# Altium footprint library KN2CLib.PcbLib: 180 footprints (part 2 of 12)
Each footprint in its own frame and in the unit in brackets; x right, y up, seen from the top. Pads: shape width x height; smd on the part's side, far side on the other; paste and mask are expansions set on the pad; w line width, h text height; cw(c..) or ccw(c..) is an arc to the next point about the centre after c.
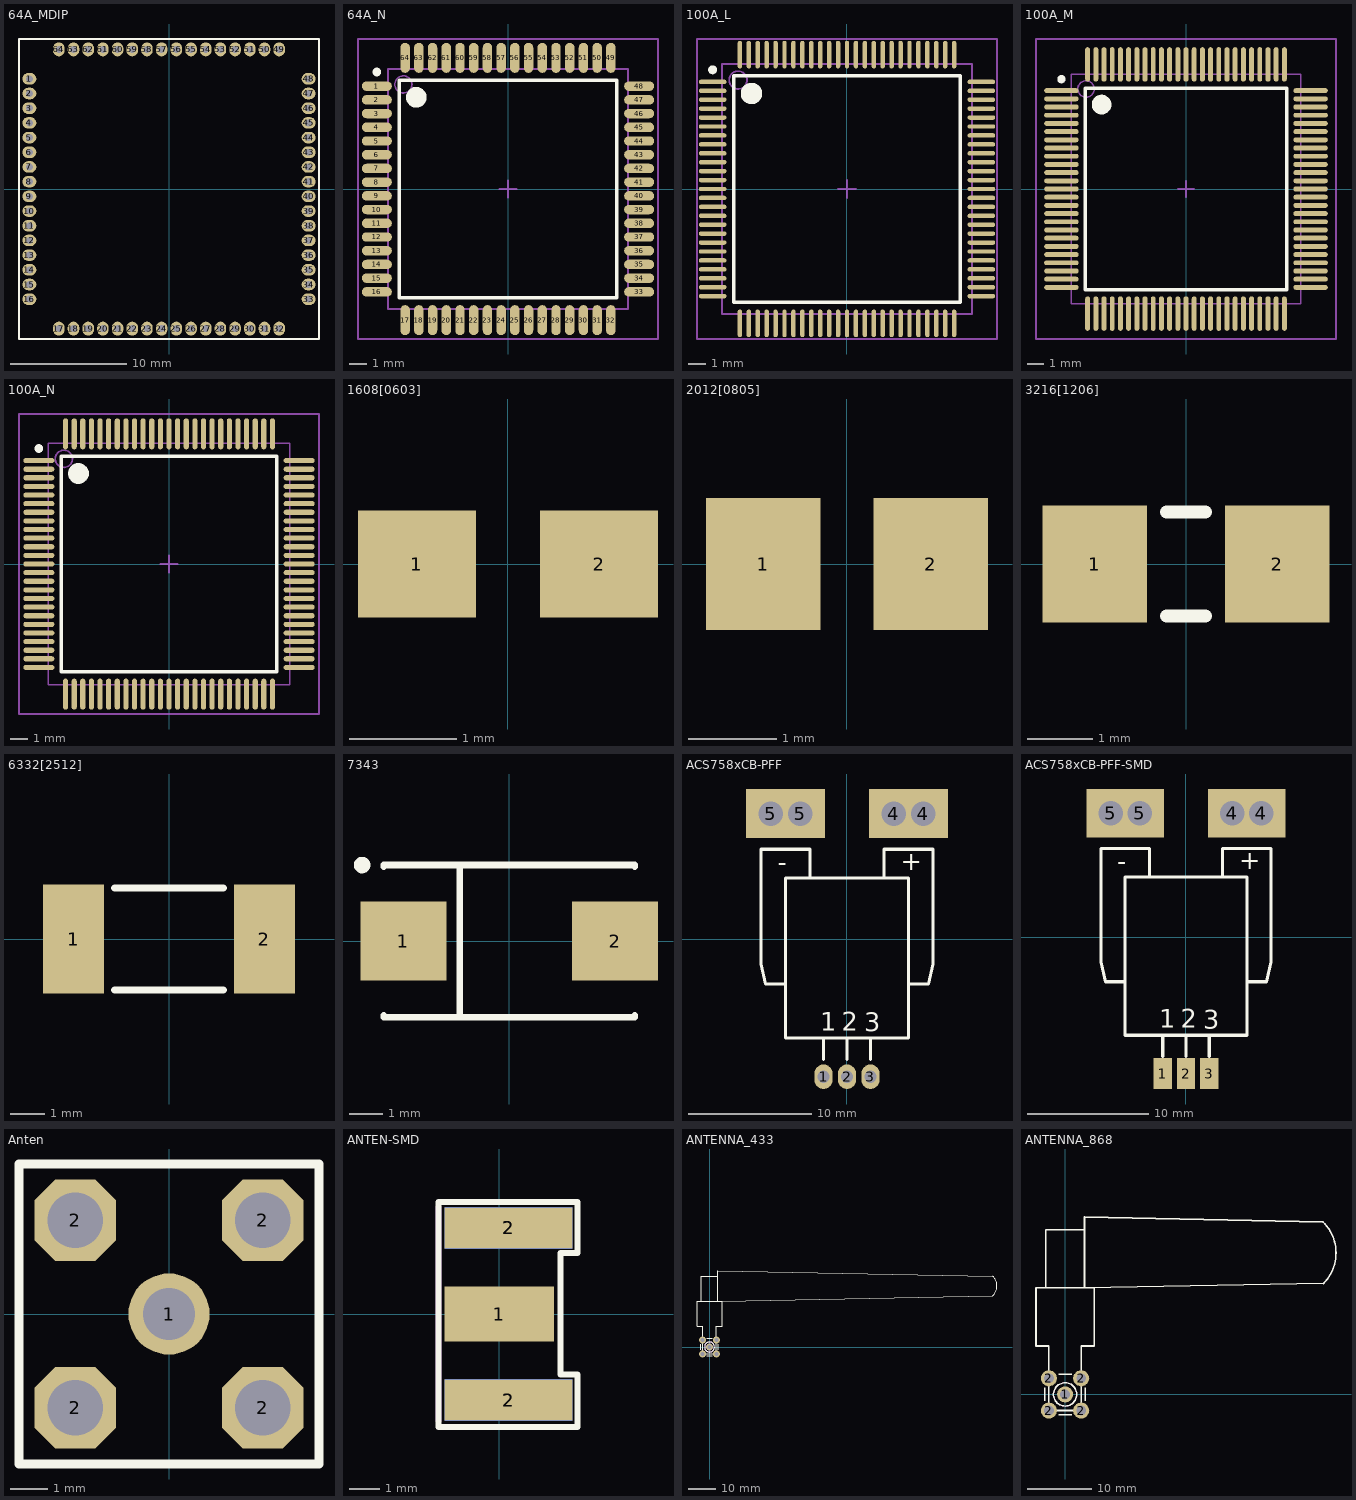
[diagram p1: the footprints below, top view; thin cyan lines are the x and y axes]

## 64A_MDIP [mm]
pads (64):
  oval 1.2x1 hole 0.6: 1(-12.065,9.525) 2(-12.065,8.255) 3(-12.065,6.985) 4(-12.065,5.715) 5(-12.065,4.445) 6(-12.065,3.175) 7(-12.065,1.905) 8(-12.065,0.635) 9(-12.065,-0.635) 10(-12.065,-1.905) 11(-12.065,-3.175) 12(-12.065,-4.445) 13(-12.065,-5.715) 14(-12.065,-6.985) 15(-12.065,-8.255) 16(-12.065,-9.525) 33(12.065,-9.525) 34(12.065,-8.255) 35(12.065,-6.985) 36(12.065,-5.715) 37(12.065,-4.445) 38(12.065,-3.175) 39(12.065,-1.905) 40(12.065,-0.635) 41(12.065,0.635) 42(12.065,1.905) 43(12.065,3.175) 44(12.065,4.445) 45(12.065,5.715) 46(12.065,6.985) 47(12.065,8.255) 48(12.065,9.525)
  oval 1x1.2 hole 0.6: 17(-9.525,-12.065) 18(-8.255,-12.065) 19(-6.985,-12.065) 20(-5.715,-12.065) 21(-4.445,-12.065) 22(-3.175,-12.065) 23(-1.905,-12.065) 24(-0.635,-12.065) 25(0.635,-12.065) 26(1.905,-12.065) 27(3.175,-12.065) 28(4.445,-12.065) 29(5.715,-12.065) 30(6.985,-12.065) 31(8.255,-12.065) 32(9.525,-12.065) 49(9.525,12.065) 50(8.255,12.065) 51(6.985,12.065) 52(5.715,12.065) 53(4.445,12.065) 54(3.175,12.065) 55(1.905,12.065) 56(0.635,12.065) 57(-0.635,12.065) 58(-1.905,12.065) 59(-3.175,12.065) 60(-4.445,12.065) 61(-5.715,12.065) 62(-6.985,12.065) 63(-8.255,12.065) 64(-9.525,12.065)
Top Overlay:
  lines w0.2: -12.965,-12.965 12.965,-12.965 12.965,12.965 -12.965,12.965 -12.965,-12.965

## 64A_N [mm] "Thin QFP, 64-Leads, Body 14x14mm, Pitch 0.8mm, IPC Medium Density"
height 1.2
pads (64):
  oval 1.75x0.55 smd: 1(-7.65,6) 2(-7.65,5.2) 3(-7.65,4.4) 4(-7.65,3.6) 5(-7.65,2.8) 6(-7.65,2) 7(-7.65,1.2) 8(-7.65,0.4) 9(-7.65,-0.4) 10(-7.65,-1.2) 11(-7.65,-2) 12(-7.65,-2.8) 13(-7.65,-3.6) 14(-7.65,-4.4) 15(-7.65,-5.2) 16(-7.65,-6) 33(7.65,-6) 34(7.65,-5.2) 35(7.65,-4.4) 36(7.65,-3.6) 37(7.65,-2.8) 38(7.65,-2) 39(7.65,-1.2) 40(7.65,-0.4) 41(7.65,0.4) 42(7.65,1.2) 43(7.65,2) 44(7.65,2.8) 45(7.65,3.6) 46(7.65,4.4) 47(7.65,5.2) 48(7.65,6)
  oval 0.55x1.75 smd: 17(-6,-7.65) 18(-5.2,-7.65) 19(-4.4,-7.65) 20(-3.6,-7.65) 21(-2.8,-7.65) 22(-2,-7.65) 23(-1.2,-7.65) 24(-0.4,-7.65) 25(0.4,-7.65) 26(1.2,-7.65) 27(2,-7.65) 28(2.8,-7.65) 29(3.6,-7.65) 30(4.4,-7.65) 31(5.2,-7.65) 32(6,-7.65) 49(6,7.65) 50(5.2,7.65) 51(4.4,7.65) 52(3.6,7.65) 53(2.8,7.65) 54(2,7.65) 55(1.2,7.65) 56(0.4,7.65) 57(-0.4,7.65) 58(-1.2,7.65) 59(-2,7.65) 60(-2.8,7.65) 61(-3.6,7.65) 62(-4.4,7.65) 63(-5.2,7.65) 64(-6,7.65)
Top Overlay:
  circle w0.6: c-5.35,5.35 r0.3
  circle w0.25: c-7.65,6.825 r0.125
  lines w0.2: -6.35,-6.35 6.35,-6.35 6.35,6.35 -6.35,6.35 -6.35,-6.35
Mechanical 13:
  circle w0.1: c-6.1,6.1 r0.5
  lines w0.1: -7,-7 7,-7 7,7 -7,7 -7,-7
Mechanical 15:
  lines w0.1: -0.5,0 0.5,0 ; 0,-0.5 0,0.5 ; -8.75,-8.75 8.75,-8.75 8.75,8.75 -8.75,8.75 -8.75,-8.75
3D body: height 1.2, standoff 0, extent -7,-7 7,7

## 100A_L [mm] "Thin QFP, 100-Leads, Body 14x14mm, Pitch 0.5mm, IPC High Density"
height 1.2
pads (100):
  oval 1.55x0.25 smd: 1(-7.525,6) 2(-7.525,5.5) 3(-7.525,5) 4(-7.525,4.5) 5(-7.525,4) 6(-7.525,3.5) 7(-7.525,3) 8(-7.525,2.5) 9(-7.525,2) 10(-7.525,1.5) 11(-7.525,1) 12(-7.525,0.5) 13(-7.525,0) 14(-7.525,-0.5) 15(-7.525,-1) 16(-7.525,-1.5) 17(-7.525,-2) 18(-7.525,-2.5) 19(-7.525,-3) 20(-7.525,-3.5) 21(-7.525,-4) 22(-7.525,-4.5) 23(-7.525,-5) 24(-7.525,-5.5) 25(-7.525,-6) 51(7.525,-6) 52(7.525,-5.5) 53(7.525,-5) 54(7.525,-4.5) 55(7.525,-4) 56(7.525,-3.5) 57(7.525,-3) 58(7.525,-2.5) 59(7.525,-2) 60(7.525,-1.5) 61(7.525,-1) 62(7.525,-0.5) 63(7.525,0) 64(7.525,0.5) 65(7.525,1) 66(7.525,1.5) 67(7.525,2) 68(7.525,2.5) 69(7.525,3) 70(7.525,3.5) 71(7.525,4) 72(7.525,4.5) 73(7.525,5) 74(7.525,5.5) 75(7.525,6)
  oval 0.25x1.55 smd: 26(-6,-7.525) 27(-5.5,-7.525) 28(-5,-7.525) 29(-4.5,-7.525) 30(-4,-7.525) 31(-3.5,-7.525) 32(-3,-7.525) 33(-2.5,-7.525) 34(-2,-7.525) 35(-1.5,-7.525) 36(-1,-7.525) 37(-0.5,-7.525) 38(0,-7.525) 39(0.5,-7.525) 40(1,-7.525) 41(1.5,-7.525) 42(2,-7.525) 43(2.5,-7.525) 44(3,-7.525) 45(3.5,-7.525) 46(4,-7.525) 47(4.5,-7.525) 48(5,-7.525) 49(5.5,-7.525) 50(6,-7.525) 76(6,7.525) 77(5.5,7.525) 78(5,7.525) 79(4.5,7.525) 80(4,7.525) 81(3.5,7.525) 82(3,7.525) 83(2.5,7.525) 84(2,7.525) 85(1.5,7.525) 86(1,7.525) 87(0.5,7.525) 88(0,7.525) 89(-0.5,7.525) 90(-1,7.525) 91(-1.5,7.525) 92(-2,7.525) 93(-2.5,7.525) 94(-3,7.525) 95(-3.5,7.525) 96(-4,7.525) 97(-4.5,7.525) 98(-5,7.525) 99(-5.5,7.525) 100(-6,7.525)
Top Overlay:
  circle w0.25: c-7.525,6.675 r0.125
  circle w0.6: c-5.35,5.35 r0.3
  lines w0.2: -6.35,-6.35 -6.35,6.35 6.35,6.35 6.35,-6.35 -6.35,-6.35
Mechanical 13:
  circle w0.1: c-6.1,6.1 r0.5
  lines w0.1: -7,-7 -7,7 7,7 7,-7 -7,-7
Mechanical 15:
  lines w0.1: -0.5,0 0.5,0 ; 0,-0.5 0,0.5 ; -8.4,-8.4 -8.4,8.4 8.4,8.4 8.4,-8.4 -8.4,-8.4
3D body: height 1.2, standoff 0, extent -7,-7 7,7

## 100A_M [mm] "Thin QFP, 100-Leads, Body 14x14mm, Pitch 0.5mm, IPC Low Density"
height 1.2
pads (100):
  oval 2.1x0.3 smd: 1(-7.6,6) 2(-7.6,5.5) 3(-7.6,5) 4(-7.6,4.5) 5(-7.6,4) 6(-7.6,3.5) 7(-7.6,3) 8(-7.6,2.5) 9(-7.6,2) 10(-7.6,1.5) 11(-7.6,1) 12(-7.6,0.5) 13(-7.6,0) 14(-7.6,-0.5) 15(-7.6,-1) 16(-7.6,-1.5) 17(-7.6,-2) 18(-7.6,-2.5) 19(-7.6,-3) 20(-7.6,-3.5) 21(-7.6,-4) 22(-7.6,-4.5) 23(-7.6,-5) 24(-7.6,-5.5) 25(-7.6,-6) 51(7.6,-6) 52(7.6,-5.5) 53(7.6,-5) 54(7.6,-4.5) 55(7.6,-4) 56(7.6,-3.5) 57(7.6,-3) 58(7.6,-2.5) 59(7.6,-2) 60(7.6,-1.5) 61(7.6,-1) 62(7.6,-0.5) 63(7.6,0) 64(7.6,0.5) 65(7.6,1) 66(7.6,1.5) 67(7.6,2) 68(7.6,2.5) 69(7.6,3) 70(7.6,3.5) 71(7.6,4) 72(7.6,4.5) 73(7.6,5) 74(7.6,5.5) 75(7.6,6)
  oval 0.3x2.1 smd: 26(-6,-7.6) 27(-5.5,-7.6) 28(-5,-7.6) 29(-4.5,-7.6) 30(-4,-7.6) 31(-3.5,-7.6) 32(-3,-7.6) 33(-2.5,-7.6) 34(-2,-7.6) 35(-1.5,-7.6) 36(-1,-7.6) 37(-0.5,-7.6) 38(0,-7.6) 39(0.5,-7.6) 40(1,-7.6) 41(1.5,-7.6) 42(2,-7.6) 43(2.5,-7.6) 44(3,-7.6) 45(3.5,-7.6) 46(4,-7.6) 47(4.5,-7.6) 48(5,-7.6) 49(5.5,-7.6) 50(6,-7.6) 76(6,7.6) 77(5.5,7.6) 78(5,7.6) 79(4.5,7.6) 80(4,7.6) 81(3.5,7.6) 82(3,7.6) 83(2.5,7.6) 84(2,7.6) 85(1.5,7.6) 86(1,7.6) 87(0.5,7.6) 88(0,7.6) 89(-0.5,7.6) 90(-1,7.6) 91(-1.5,7.6) 92(-2,7.6) 93(-2.5,7.6) 94(-3,7.6) 95(-3.5,7.6) 96(-4,7.6) 97(-4.5,7.6) 98(-5,7.6) 99(-5.5,7.6) 100(-6,7.6)
Top Overlay:
  circle w0.25: c-7.6,6.7 r0.125
  circle w0.6: c-5.15,5.15 r0.3
  lines w0.2: -6.15,-6.15 -6.15,6.15 6.15,6.15 6.15,-6.15 -6.15,-6.15
Mechanical 13:
  circle w0.1: c-6.1,6.1 r0.5
  lines w0.1: -7,-7 -7,7 7,7 7,-7 -7,-7
Mechanical 15:
  lines w0.1: -0.5,0 0.5,0 ; 0,-0.5 0,0.5 ; -9.15,-9.15 -9.15,9.15 9.15,9.15 9.15,-9.15 -9.15,-9.15
3D body: height 1.2, standoff 0, extent -7,-7 7,7

## 100A_N [mm] "Thin QFP, 100-Leads, Body 14x14mm, Pitch 0.5mm, IPC Medium Density"
height 1.2
pads (100):
  oval 1.8x0.3 smd: 1(-7.55,6) 2(-7.55,5.5) 3(-7.55,5) 4(-7.55,4.5) 5(-7.55,4) 6(-7.55,3.5) 7(-7.55,3) 8(-7.55,2.5) 9(-7.55,2) 10(-7.55,1.5) 11(-7.55,1) 12(-7.55,0.5) 13(-7.55,0) 14(-7.55,-0.5) 15(-7.55,-1) 16(-7.55,-1.5) 17(-7.55,-2) 18(-7.55,-2.5) 19(-7.55,-3) 20(-7.55,-3.5) 21(-7.55,-4) 22(-7.55,-4.5) 23(-7.55,-5) 24(-7.55,-5.5) 25(-7.55,-6) 51(7.55,-6) 52(7.55,-5.5) 53(7.55,-5) 54(7.55,-4.5) 55(7.55,-4) 56(7.55,-3.5) 57(7.55,-3) 58(7.55,-2.5) 59(7.55,-2) 60(7.55,-1.5) 61(7.55,-1) 62(7.55,-0.5) 63(7.55,0) 64(7.55,0.5) 65(7.55,1) 66(7.55,1.5) 67(7.55,2) 68(7.55,2.5) 69(7.55,3) 70(7.55,3.5) 71(7.55,4) 72(7.55,4.5) 73(7.55,5) 74(7.55,5.5) 75(7.55,6)
  oval 0.3x1.8 smd: 26(-6,-7.55) 27(-5.5,-7.55) 28(-5,-7.55) 29(-4.5,-7.55) 30(-4,-7.55) 31(-3.5,-7.55) 32(-3,-7.55) 33(-2.5,-7.55) 34(-2,-7.55) 35(-1.5,-7.55) 36(-1,-7.55) 37(-0.5,-7.55) 38(0,-7.55) 39(0.5,-7.55) 40(1,-7.55) 41(1.5,-7.55) 42(2,-7.55) 43(2.5,-7.55) 44(3,-7.55) 45(3.5,-7.55) 46(4,-7.55) 47(4.5,-7.55) 48(5,-7.55) 49(5.5,-7.55) 50(6,-7.55) 76(6,7.55) 77(5.5,7.55) 78(5,7.55) 79(4.5,7.55) 80(4,7.55) 81(3.5,7.55) 82(3,7.55) 83(2.5,7.55) 84(2,7.55) 85(1.5,7.55) 86(1,7.55) 87(0.5,7.55) 88(0,7.55) 89(-0.5,7.55) 90(-1,7.55) 91(-1.5,7.55) 92(-2,7.55) 93(-2.5,7.55) 94(-3,7.55) 95(-3.5,7.55) 96(-4,7.55) 97(-4.5,7.55) 98(-5,7.55) 99(-5.5,7.55) 100(-6,7.55)
Top Overlay:
  circle w0.25: c-7.55,6.7 r0.125
  circle w0.6: c-5.25,5.25 r0.3
  lines w0.2: -6.25,-6.25 -6.25,6.25 6.25,6.25 6.25,-6.25 -6.25,-6.25
Mechanical 13:
  circle w0.1: c-6.1,6.1 r0.5
  lines w0.1: -7,-7 -7,7 7,7 7,-7 -7,-7
Mechanical 15:
  lines w0.1: -0.5,0 0.5,0 ; 0,-0.5 0,0.5 ; -8.7,-8.7 -8.7,8.7 8.7,8.7 8.7,-8.7 -8.7,-8.7
3D body: height 1.2, standoff 0, extent -7,-7 7,7

## 1608[0603] [mm] "Chip Capacitor; Body 1.6 x 0.8 mm (LxW typ)"
height 1.35
pads (2):
  rect 1.1x1 smd: 1(-0.85,0) 2(0.85,0)
3D body: height 0.5, standoff 0, extent -1.125,-0.5 1.125,0.5

## 2012[0805] [mm] "Chip Resistor; Body 2.0 x 1.3 mm (LxW typ)"
height 2.54
pads (2):
  rect 1.3x1.5 smd: 1(-0.95,0) 2(0.95,0)
3D body: height 0.5, standoff 0, extent -1.225,-0.75 1.275,0.75

## 3216[1206] [mm] "Chip Resistor; Body 3.2 x 1.6 mm (LxW typ)"
height 2.54
pads (2):
  rect 1.6x1.8 smd: 1(-1.4,0) 2(1.4,0)
Top Overlay:
  lines w0.2: -0.3,-0.8 0.3,-0.8 ; -0.3,0.8 0.3,0.8
3D body: height 0.5, standoff 0, extent -1.875,-0.9 1.85,0.9

## 6332[2512] [mm] "Chip Resistor; Body 6.3 x 3.2 mm (LxW typ)"
height 0.6
pads (2):
  rect 1.8x3.2 smd: 1(-2.8,0) 2(2.8,0)
Top Overlay:
  lines w0.2: -1.6,-1.5 1.6,-1.5 ; -1.6,1.5 1.6,1.5
3D body: height 0.5, standoff 0, extent -3.275,-1.6 3.375,1.6

## 7343 [mm] "Capacitor, SM Tantalum; Body 7.3 x 4.3 mm (LxW typ)"
height 3.1
pads (2):
  rect 2.6x2.4 smd: 1(-3.2,0) 2(3.2,0)
Top Overlay:
  circle w0.25: c-4.45,2.3 r0.125
  lines w0.2: -3.8,-2.25 -3.8,-2.3 3.8,-2.3 3.8,-2.25 ; -3.8,2.25 -3.8,2.3 3.8,2.3 3.8,2.25 ; -1.5,-2.3 -1.5,2.3
3D body: height 2, standoff 0, extent -3.9,-2.4 3.9,2.4

## ACS758xCB-PFF [mm]
pads (7):
  oval 1.5x2 hole 1: 1(-1.91,-11.2) 2(0,-11.2) 3(1.91,-11.2)
  rect 4x4 hole 2: 4(3.8,10.2) 4(6.2,10.2) 5(-6.2,10.2) 5(-3.8,10.2)
Top Overlay:
  lines w0.254: -7,7.279 -7,-2.043 -6.629,-3.65 -5.007,-3.65 -5,-3.643 ; -7,7.3 -3,7.3 ; -3,4.95 -3,7.279 ; -1.91,-9.8 -1.91,-8.055 ; 0,-9.8 0,-8.055 ; 1.91,-9.8 1.91,-8.055 ; 3,4.95 3,7.304 ; 3,7.3 7,7.3 ; 5,-3.643 5.007,-3.65 6.629,-3.65 7,-2.043 7,7.304 ; -5,-8.05 5,-8.05 5,4.95 -5,4.95 -5,-8.05
  text "3" at 1.401,-7.512 h1.52
  text "2" at -0.432,-7.453 h1.52
  text "1" at -2.184,-7.453 h1.52
  text "-" at -5.639,5.501 h1.52
  text "+" at 4.369,5.603 h1.52
3D body: height 0.5, standoff 0, extent -2.027,-10.714 -1.773,-7.615
3D body: height 0.5, standoff 0, extent -0.114,-10.729 0.14,-7.63
3D body: height 0.5, standoff 0, extent 1.783,-10.668 2.037,-7.569
3D body: height 2, standoff 0, extent -5.039,-8.092 5.065,4.945
3D body: height 1, standoff 0, extent 2.969,-3.68 7.015,7.29
3D body: height 1, standoff 0, extent -7.015,-3.68 -2.969,7.29

## ACS758xCB-PFF-SMD [mm]
pads (7):
  rect 1.5x2.54 smd: 1(-1.91,-11.2) 2(0,-11.2) 3(1.91,-11.2)
  rect 4x4 hole 2: 4(3.8,10.2) 4(6.2,10.2) 5(-6.2,10.2) 5(-3.8,10.2)
Top Overlay:
  lines w0.254: -7,7.279 -7,-2.043 -6.629,-3.65 -5.007,-3.65 -5,-3.643 ; -7,7.3 -3,7.3 ; -3,4.95 -3,7.279 ; -1.91,-9.8 -1.91,-8.055 ; 0,-9.8 0,-8.055 ; 1.91,-9.8 1.91,-8.055 ; 3,4.95 3,7.304 ; 3,7.3 7,7.3 ; 5,-3.643 5.007,-3.65 6.629,-3.65 7,-2.043 7,7.304 ; -5,-8.05 5,-8.05 5,4.95 -5,4.95 -5,-8.05
  text "3" at 1.401,-7.512 h1.52
  text "2" at -0.432,-7.453 h1.52
  text "1" at -2.184,-7.453 h1.52
  text "-" at -5.639,5.501 h1.52
  text "+" at 4.369,5.603 h1.52
3D body: height 0.5, standoff 0, extent -2.027,-10.714 -1.773,-7.615
3D body: height 0.5, standoff 0, extent -0.114,-10.729 0.14,-7.63
3D body: height 0.5, standoff 0, extent 1.783,-10.668 2.037,-7.569
3D body: height 2, standoff 0, extent -5.039,-8.092 5.065,4.945
3D body: height 1, standoff 0, extent 2.969,-3.68 7.015,7.29
3D body: height 1, standoff 0, extent -7.015,-3.68 -2.969,7.29

## Anten [mm]
pads (5):
  round 2.2 hole 1.4: 1(0,0)
  oct 2.2x2.2 hole 1.5: 2(-2.54,-2.54) 2(-2.54,2.54) 2(2.54,-2.54) 2(2.54,2.54)
Top Overlay:
  lines w0.254: -4.064,-4.064 4.064,-4.064 4.064,4.064 -4.064,4.064 -4.064,-4.064
3D body: height 8.75, standoff 4, extent -4.064,-4.064 3.904,3.92
3D body: height 30, standoff 0, extent -1.952,-1.996 1.534,1.497
3D body: height 10.5, standoff 4, extent -2.988,-2.94 2.988,3.048

## ANTEN-SMD [mm]
pads (5):
  rect 3.6x1.8 smd: 1(0,0)
  rect 4.2x1.35 smd: 2(0.3,-2.825) 2(0.3,2.825)
  rect 4.2x1.35 smd far side: 2(0.3,-2.825) 2(0.3,2.825)
Top Overlay:
  lines w0.2: 2,-1.976 2,1.976 ; 2.007,-1.981 2.559,-1.981 ; 2.007,2.007 2.565,2.007 2.565,3.683 -2,3.683 -2,-3.708 2.565,-3.708 ; 2.565,-3.702 2.565,-1.981
Mechanical 1:
  lines w0.2: -2,-3.5 -2,3.5
3D body: height 3.76, standoff -2.59, extent -11.665,-3.2 1.665,3.15

## ANTENNA_433 [mm]
pads (5):
  round 2.5 hole 1.5: 1(0,0) 2(-2.5,-2.5) 2(-2.5,2.5) 2(2.5,-2.5) 2(2.5,2.5)
Top Overlay:
  circle w0.2: c0,0 r1.8
  lines w0.2: -3.15,-1 -3.15,1 ; -1,-3.15 1,-3.15 ; -1,3.15 1,3.15 ; 3.15,-1 3.15,1
  lines w0.254: -3,16.5 -3,25.5 3,25.5 ; 3,16.5 3,25.5 ; 4.309,16.5 102,18.5 ccw(c98.5,22) 102,25.5 3,27.5 3,25.5 ; 2.5,7.5 4.5,7.5 ; 2.5,7.5 4.5,7.5 ; 2.5,7.5 2.5,-2.5 -2.5,-2.5 -2.5,7.5 -4.5,7.5 -4.5,16.5 4.5,16.5 4.5,7.5
Mechanical 1:
  circle w0.025: c0,0 r0.2
  circle w0.025: c0,0 r1.05
  circle w0.025: c0,0 r1.8
3D body: height 9.7, standoff 4.6, extent -4.475,-2.45 103.512,27.5
3D body: height 9.6, standoff 0, extent -2.55,-3.175 2.7,3.125

## ANTENNA_868 [mm]
pads (5):
  round 2.5 hole 1.5: 1(0,0) 2(-2.5,-2.5) 2(-2.5,2.5) 2(2.5,-2.5) 2(2.5,2.5)
Top Overlay:
  circle w0.2: c0,0 r1.8
  lines w0.2: -3.15,-1 -3.15,1 ; -1,-3.15 1,-3.15 ; -1,3.15 1,3.15 ; 3.15,-1 3.15,1
  lines w0.254: -3,16.5 -3,25.5 3,25.5 ; 3,16.5 3,25.5 ; 3,16.525 40,17.2 ; 3,27.475 40,26.7 ; 3,27.5 3,25.5 ; 39.95,26.7 cw(c35.2,21.9) 40,17.15 ; 2.5,7.5 2.5,-2.5 -2.5,-2.5 -2.5,7.5 -4.5,7.5 -4.5,16.5 4.5,16.5 4.5,7.5 ; 2.5,7.5 4.5,7.5 ; 2.5,7.5 4.5,7.5
Mechanical 1:
  circle w0.025: c0,0 r1.8
  circle w0.025: c0,0 r1.05
  circle w0.025: c0,0 r0.2
3D body: height 9.7, standoff 4.6, extent -4.5,-2.525 41.925,27.45